# Altium schematic symbol library CP2103-QFN28.SchLib: 1 symbol
Pins are listed as number, name and electrical type; pins without a type are passive.

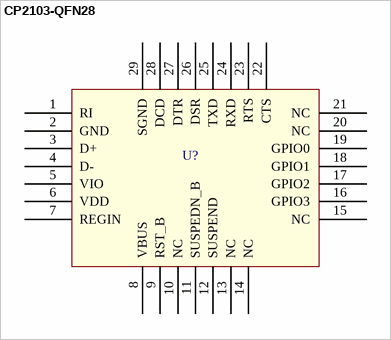
[diagram p0: symbol CP2103-QFN28]

## CP2103-QFN28
designator U?  (value not drawn)
pins: 1 RI, 2 GND, 3 D+, 4 D-, 5 VIO, 6 VDD, 7 REGIN, 8 VBUS, 9 RST_B, 10 NC, 11 SUSPEDN_B, 12 SUSPEND, 13 NC, 14 NC, 15 NC, 16 GPIO3, 17 GPIO2, 18 GPIO1, 19 GPIO0, 20 NC, 21 NC, 22 CTS, 23 RTS, 24 RXD, 25 TXD, 26 DSR, 27 DTR, 28 DCD, 29 SGND